# Altium footprint library DC-PJ.PcbLib: 1 footprints
Each footprint in its own frame and in the unit in brackets; x right, y up, seen from the top. Pads: shape width x height; smd on the part's side, far side on the other; paste and mask are expansions set on the pad; w line width, h text height; cw(c..) or ccw(c..) is an arc to the next point about the centre after c.
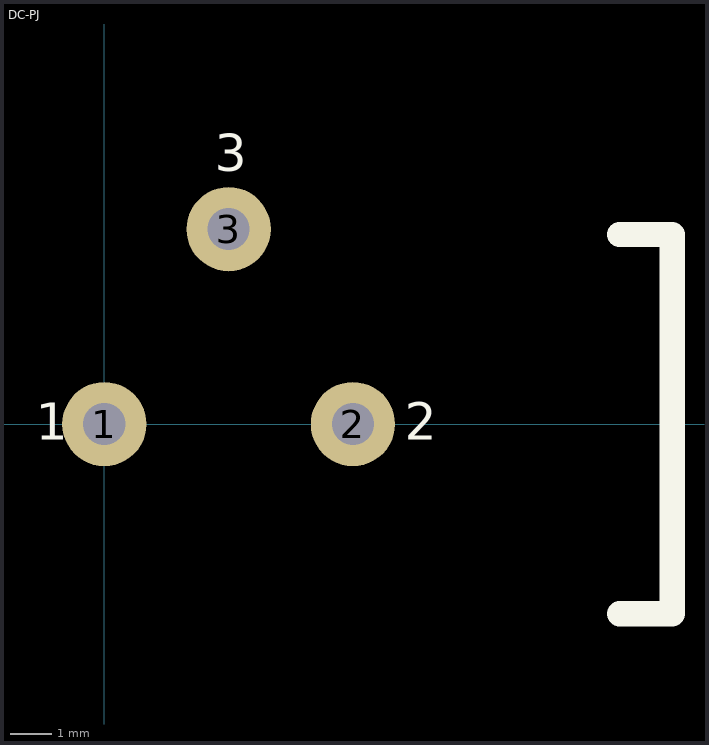
[diagram p0: the footprint, top view; thin cyan lines are the x and y axes]

## DC-PJ [mil]
pads (3):
  round 80 hole 40 mask+2.76: 1(0,0) 2(236,0) 3(118,185)
Top Overlay:
  lines w24: 489,-180 539,-180 539,180 489,180
  text "1" at -65,-15 h35
  text "2" at 285,-15 h35
  text "3" at 105,240 h35
3D body: height 433.67, standoff -137.19, extent -26.93,-175.04 540,195.04